# Altium schematic symbol library 150060VS75000.SchLib: 1 symbol
Pins are listed as number, name and electrical type; pins without a type are passive.

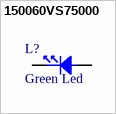
[diagram p0: symbol 150060VS75000]

## 150060VS75000
designator L?, comment Green Led
LED GREEN CLEAR 0603 SMD; Manufacturer: Wurth Elektronik; Manufacturer Part Number: 150060VS75000; Manufacturer Lifecycle Status: ACTIVE; Dominant Wavelength: 570nm; Forward Current: 100mA; Forward Voltage: 2V; Lens Style: Clear, Rectangular; Luminous Intensity: 40mcd; Max Junction Temperature (Tj): 95°C; Max Reverse Voltage (DC): 5V; Peak Wavelength: 572nm; Power Dissipation: 72mW; Test Current: 20mA; Viewing Angle: 140°; YEOL: 1 = Estimated lifetime > 10 years; Supplier: DigiKey; Supplier Part Number: 732-4980-1-ND; RoHS: Compliant; Category: LEDs; Stock: 627050; Pricing: 1=0.15, 50=0.142, 100=0.1239 (USD); Case/Package: 0603; Case Code (Imperial): 0603; Case Code (Metric): 1608; Color: Green; Height: 700µm; Length: 1.6mm; Lifecycle Status: Production; Max Operating Temperature: 85°C; Min Operating Temperature: -40°C; Mounting Technology: Surface Mount; Pins: 2; Packaging: Tape and Reel; REACH SVHC: Unknown; Reverse Voltage: 5V; Wavelength: 570nm; Width: 800µm; ComponentLink1URL: https://datasheet.octopart.com:443/150060VS75000-W%C3%BCrth-Elektronik-datasheet-141404641.pdf?src-supplier=Upverter; ComponentLink1Description: https://datasheet.octopart.com:443/150060VS75000-W%C3%BCrth-Elektronik-datasheet-141404641.pdf?src-supplier=Upverter; ComponentLink2URL: https://datasheet.octopart.com:443/150060VS75000-W%C3%BCrth-Elektronik-datasheet-15983789.pdf?src-supplier=Upverter; ComponentLink2Description: https://datasheet.octopart.com:443/150060VS75000-W%C3%BCrth-Elektronik-datasheet-15983789.pdf?src-supplier=Upverter; ComponentLink3URL: https://datasheet.octopart.com:443/150060VS75000-W%C3%BCrth-Elektronik-datasheet-141916710.pdf?src-supplier=Newark; ComponentLink3Description: https://datasheet.octopart.com:443/150060VS75000-W%C3%BCrth-Elektronik-datasheet-141916710.pdf?src-supplier=Newark; ComponentLink4URL: https://datasheet.octopart.com:443/150060VS75000-W%C3%BCrth-Elektronik-datasheet-41196440.pdf?src-supplier=Newark; ComponentLink4Description: https://datasheet.octopart.com:443/150060VS75000-W%C3%BCrth-Elektronik-datasheet-41196440.pdf?src-supplier=Newark
footprint WL-SMCW_0603-G
footprint WL-SMCW_0603-G
pins: A, C